# Altium footprint library GenericComponents.PcbLib: 41 footprints (part 3 of 3)
Each footprint in its own frame and in the unit in brackets; x right, y up, seen from the top. Pads: shape width x height; smd on the part's side, far side on the other; paste and mask are expansions set on the pad; w line width, h text height; cw(c..) or ccw(c..) is an arc to the next point about the centre after c.
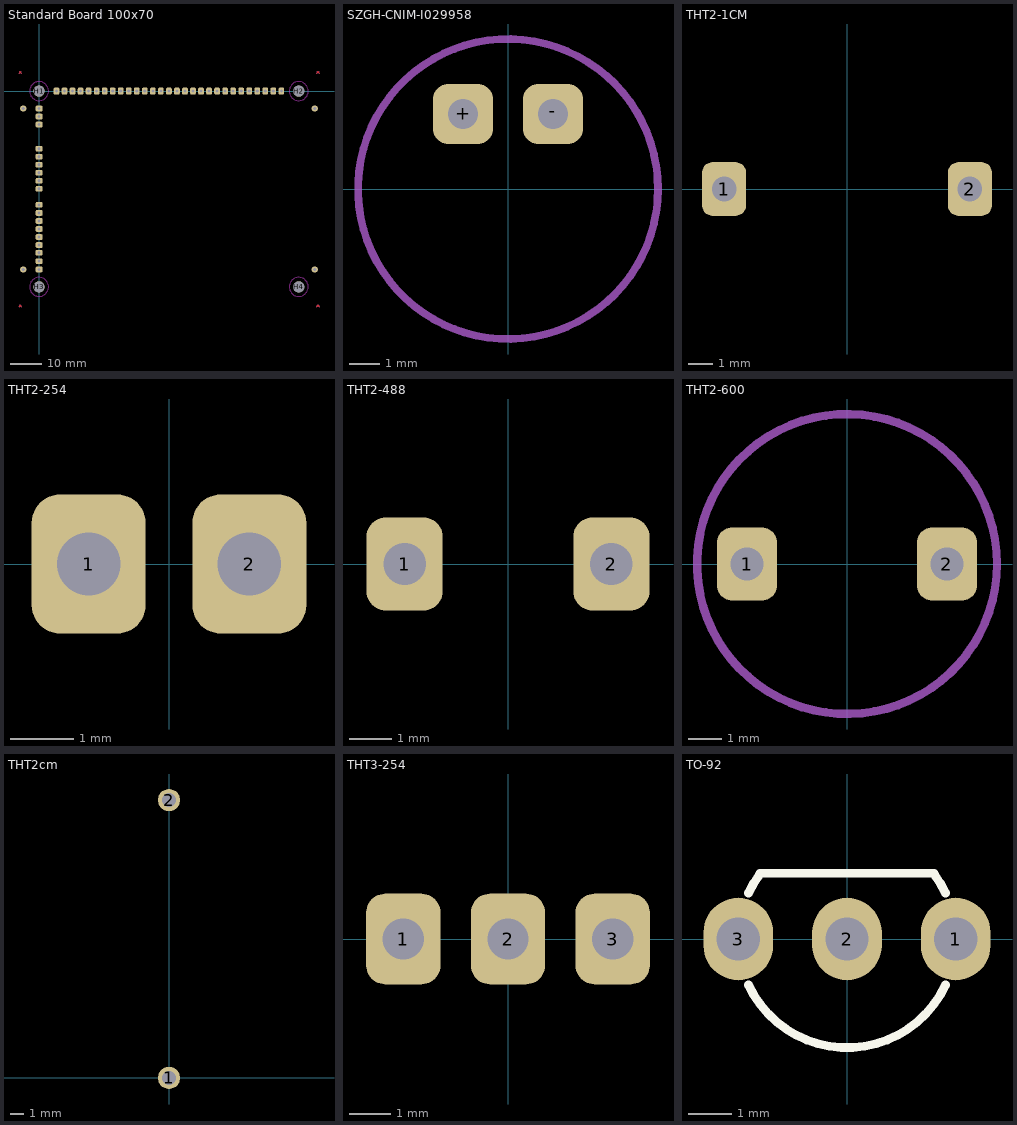
[diagram p2: the footprints below, top view; thin cyan lines are the x and y axes]

## Standard Board 100x70 [mm]
height 10
pads (51):
  rrect50% 2.2x1.8 hole 1: A1(0,-35.98) A2(0,-38.52) A3(0,-41.06) A4(0,-43.6) A5(0,-46.14) A6(0,-48.68) A7(0,-51.11) A8(0,-53.76) A9(0,-56.41) GRND(0,-5.5) P1(0,-28.36) P2(0,-25.82) P3(0,-23.28) P4(0,-20.74) P5(0,-18.2) P+(0,-8.04) P-(0,-10.58) PCS(0,-30.9)
  rrect50% 1.8x2.2 hole 1: D1(5.5,0) D2(8.04,0) D3(10.58,0) D4(13.12,0) D5(15.66,0) D6(18.2,0) D7(20.74,0) D8(23.28,0) D9(25.82,0) D10(28.36,0) D11(30.9,0) D12(33.44,0) D13(35.98,0) D14(38.52,0) D15(41.06,0) D16(43.6,0) D17(46.14,0) D18(48.68,0) D19(51.22,0) D20(53.76,0) D21(56.3,0) D22(58.84,0) D23(61.38,0) D24(63.92,0) D25(66.46,0) D26(69,0) D27(71.54,0) D28(74.08,0) D29(76.62,0)
  round 3.5 hole 3.5 unplated: H1(0,0) H2(82.12,0) H3(0,-61.91) H4(82.12,-61.91)
via -5,-5.5 diameter 2 hole 1
via 87.18,-5.5 diameter 2 hole 1
via -5,-56.41 diameter 2 hole 1
via 87.18,-56.41 diameter 2 hole 1
Top Layer:
  lines w0.254: -6.35,-68.26 -5.715,-67.625 ; -6.35,-67.625 -5.715,-68.26 ; -6.35,5.715 -5.715,6.35 ; -6.35,6.35 -5.715,5.715 ; 87.895,-68.26 88.53,-67.625 ; 87.895,-67.625 88.53,-68.26 ; 87.895,5.715 88.53,6.35 ; 87.895,6.35 88.53,5.715
  text "D14" at 37.211,2.032 h1
  text "D29" at 75.235,2.032 h1
  text "GND" at -4.013,-4.166 h1
  text "P5" at -3.683,-18.694 h1
  text "D1" at 4.851,2.032 h1
  text "A1" at -3.302,-36.424 h1
  text "9" at -2.642,-56.845 h1
  text "CS" at -3.708,-31.369 h1
  text "1" at -2.413,-28.804 h1
Bottom Layer:
  lines w0.254: -6.35,-68.26 -5.715,-67.625 ; -6.35,-67.625 -5.715,-68.26 ; -6.35,5.715 -5.715,6.35 ; -6.35,6.35 -5.715,5.715 ; 87.895,-68.26 88.53,-67.625 ; 87.895,-67.625 88.53,-68.26 ; 87.895,5.715 88.53,6.35 ; 87.895,6.35 88.53,5.715
Drill Guide:
  lines w0.254: -6.35,-68.26 -5.715,-67.625 ; -6.35,-67.625 -5.715,-68.26 ; -6.35,5.715 -5.715,6.35 ; -6.35,6.35 -5.715,5.715 ; 87.895,-68.26 88.53,-67.625 ; 87.895,-67.625 88.53,-68.26 ; 87.895,5.715 88.53,6.35 ; 87.895,6.35 88.53,5.715
Keep-Out Layer:
  circle w0.254: c0,-61.91 r3
  circle w0.254: c82.12,-61.91 r3
  circle w0.254: c82.12,0 r3
  circle w0.254: c0,0 r3
Multi-Layer:
  lines w0.5: -4.96,-5.46 0,-5.46 ; -5,-66.91 87.18,-66.91 87.18,5 -5,5 -5,-66.91
  text "+" at -2.489,-8.509 h1
  text "-" at -2.489,-11.024 h1

## SZGH-CNIM-I029958 [mm] "Handheld Microphone"
pads (2):
  rrect50% 2x2 hole 1: +(-1.5,2.5) -(1.5,2.5)
Mechanical 1:
  circle w0.254: c0,0 r5

## THT2-1CM [mm] "THT, 2 slot, 1cm"
pads (2):
  rrect50% 1.8x2.2 hole 1: 1(-5,0) 2(5,0)

## THT2-254 [mm] "THT, 2 slot, 2.54mm"
pads (2):
  rrect50% 1.8x2.2 hole 1: 1(-1.27,0) 2(1.27,0)

## THT2-488 [mm] "THT, 2 slot, 4.88mm"
pads (2):
  rrect50% 1.8x2.2 hole 1: 1(-2.44,0) 2(2.44,0)

## THT2-600 [mm] "THT, 2 slot, 6mm"
pads (2):
  rrect50% 1.8x2.2 hole 1: 1(-3,0) 2(3,0)
Mechanical 1:
  circle w0.254: c0,0 r4.5

## THT2cm [mm] "Generic THT Component 2cm"
pads (2):
  round 1.6 hole 1: 1(0,0) 2(0,20)

## THT3-254 [mm] "THT, 3 slot, 2.54mm"
pads (3):
  rrect50% 1.8x2.2 hole 1: 1(-2.54,0) 2(0,0) 3(2.54,0)

## TO-92 [mm]
pads (3):
  oval 1.6x1.9 hole 1: 1(2.5,0) 2(0,0) 3(-2.5,0)
Top Overlay:
  lines w0.2: -2.265,-1.057 ccw(c0,0) 2.265,-1.057 ; -2.265,1.057 cw(c0,0) -1.993,1.51 ; -2,1.515 2,1.515 ; 1.993,1.51 cw(c0,0) 2.265,1.057
3D body: height 8.5, standoff -2.8, extent -2.765,-2.528 2.765,1.55